# EAGLE library part MAX13431E (library controller)
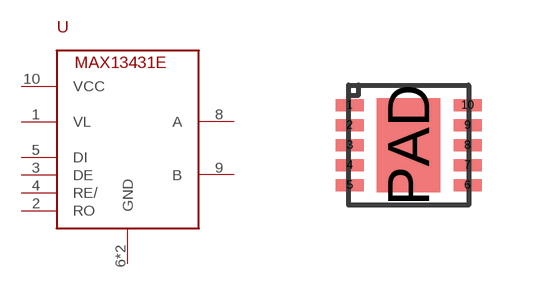
[diagram p4: symbol with the pads of TDFN10; footprint TDFN10]

Designator prefix -

## MAX13431E  [TDFN10]
1  VL
2  RO
3  DE
4  RE/
5  DI
6  GND
8  A
9  B
10  VCC
PAD  GND

## Footprint TDFN10 (pad centres in mm)
smd 0.7 x 0.3: 1 -1.475,1; 2 -1.475,0.5; 3 -1.475,0; 4 -1.475,-0.5; 5 -1.475,-1; 6 1.475,-1; 7 1.475,-0.5; 8 1.475,0; 9 1.475,0.5; 10 1.475,1
smd 1.58 x 2.35: PAD 0,0